# Altium footprint library SO.PcbLib: 19 footprints (part 2 of 2)
Each footprint in its own frame and in the unit in brackets; x right, y up, seen from the top. Pads: shape width x height; smd on the part's side, far side on the other; paste and mask are expansions set on the pad; w line width, h text height; cw(c..) or ccw(c..) is an arc to the next point about the centre after c.
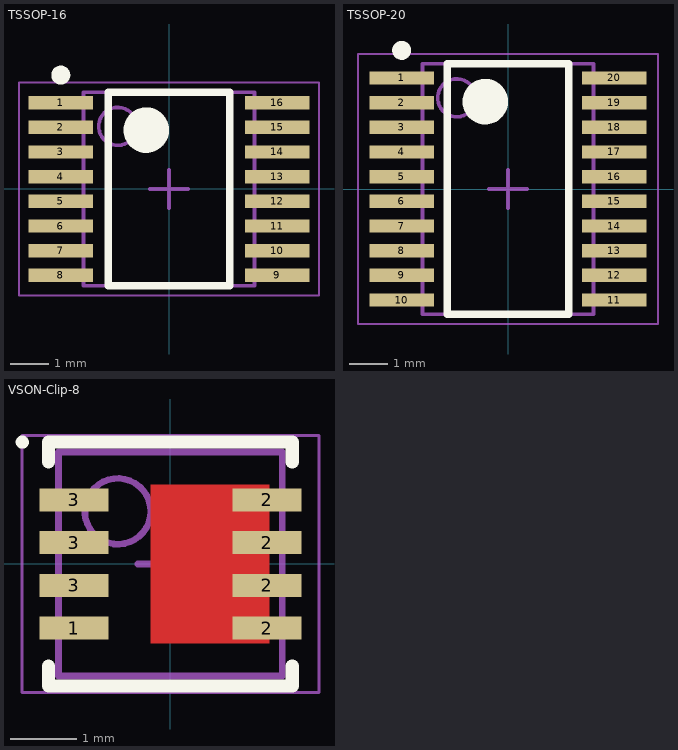
[diagram p1: the footprints below, top view; thin cyan lines are the x and y axes]

## TSSOP-16 [mm] "TSOP, 16-Leads, Body 5,00x4,40mm, Pitch 0,65mm, IPC Medium Density"
height 1.2
pads (16):
  rect 1.7x0.35 smd: 1(-2.85,2.275) 2(-2.85,1.625) 3(-2.85,0.975) 4(-2.85,0.325) 5(-2.85,-0.325) 6(-2.85,-0.975) 7(-2.85,-1.625) 8(-2.85,-2.275) 9(2.85,-2.275) 10(2.85,-1.625) 11(2.85,-0.975) 12(2.85,-0.325) 13(2.85,0.325) 14(2.85,0.975) 15(2.85,1.625) 16(2.85,2.275)
Top Overlay:
  circle w0.25: c-2.85,3 r0.125
  circle w0.6: c-0.6,1.55 r0.3
  lines w0.2: -1.6,-2.55 -1.6,2.55 1.6,2.55 1.6,-2.55 -1.6,-2.55
Mechanical 13:
  circle w0.1: c-1.35,1.65 r0.5
  lines w0.1: -2.25,-2.55 -2.25,2.55 2.25,2.55 2.25,-2.55 -2.25,-2.55
Mechanical 15:
  lines w0.05: -3.95,-2.8 -3.95,2.8 3.95,2.8 3.95,-2.8 -3.95,-2.8
  lines w0.1: -0.5,0 0.5,0 ; 0,-0.5 0,0.5
3D body "User Library-TSSOP-16-1.step": height 1.1, standoff 0, extent -3.2,-2.5 3.2,2.5

## TSSOP-20 [mm] "TSOP, 20-Leads, Body 6,50x4,40mm, Pitch 0,65mm, IPC Medium Density"
height 1.2
pads (20):
  rect 1.7x0.35 smd: 1(-2.8,2.925) 2(-2.8,2.275) 3(-2.8,1.625) 4(-2.8,0.975) 5(-2.8,0.325) 6(-2.8,-0.325) 7(-2.8,-0.975) 8(-2.8,-1.625) 9(-2.8,-2.275) 10(-2.8,-2.925) 11(2.8,-2.925) 12(2.8,-2.275) 13(2.8,-1.625) 14(2.8,-0.975) 15(2.8,-0.325) 16(2.8,0.325) 17(2.8,0.975) 18(2.8,1.625) 19(2.8,2.275) 20(2.8,2.925)
Top Overlay:
  circle w0.25: c-2.8,3.65 r0.125
  circle w0.6: c-0.6,2.3 r0.3
  lines w0.2: -1.6,-3.3 -1.6,3.3 1.6,3.3 1.6,-3.3 -1.6,-3.3
Mechanical 13:
  circle w0.1: c-1.35,2.4 r0.5
  lines w0.1: -2.25,-3.3 -2.25,3.3 2.25,3.3 2.25,-3.3 -2.25,-3.3
Mechanical 15:
  lines w0.05: -3.95,-3.55 -3.95,3.55 3.95,3.55 3.95,-3.55 -3.95,-3.55
  lines w0.1: -0.5,0 0.5,0 ; 0,-0.5 0,0.5
3D body "User Library-TSSOP-20.step": height 1.2, standoff 0, extent -3.275,-3.3 3.275,3.3

## VSON-Clip-8 [mm] "SON, 8-Leads, Body 3,30x3,30mm, Pitch 0,65mm, IPC Medium Density"
height 1
pads (8):
  rect 1.05x0.35 smd: 1(-1.465,-0.975) 2(1.465,-0.975) 2(1.465,-0.325) 2(1.465,0.325) 2(1.465,0.975) 3(-1.465,-0.325) 3(-1.465,0.325) 3(-1.465,0.975)
Top Layer:
  region: 1.5,1.2 -0.3,1.2 -0.3,-1.2 1.5,-1.2
Top Overlay:
  circle w0.1: c-2.25,1.85 r0.05
  lines w0.2: -1.85,-1.55 -1.85,-1.85 1.85,-1.85 1.85,-1.55 ; -1.85,1.55 -1.85,1.85 1.85,1.85 1.85,1.55
Mechanical 13:
  circle w0.1: c-0.8,0.8 r0.5
  lines w0.1: -1.7,-1.7 -1.7,1.7 1.7,1.7 1.7,-1.7 -1.7,-1.7
Mechanical 15:
  lines w0.05: -2.255,-1.95 -2.255,1.95 2.255,1.95 2.255,-1.95 -2.255,-1.95
  lines w0.1: -0.5,0 0.5,0 ; 0,-0.5 0,0.5
3D body: height 1, standoff 0, extent -1.7,-1.7 1.7,1.7